# Altium integrated library WE-SHC (rev24a).IntLib: 139 symbols (part 3 of 3)
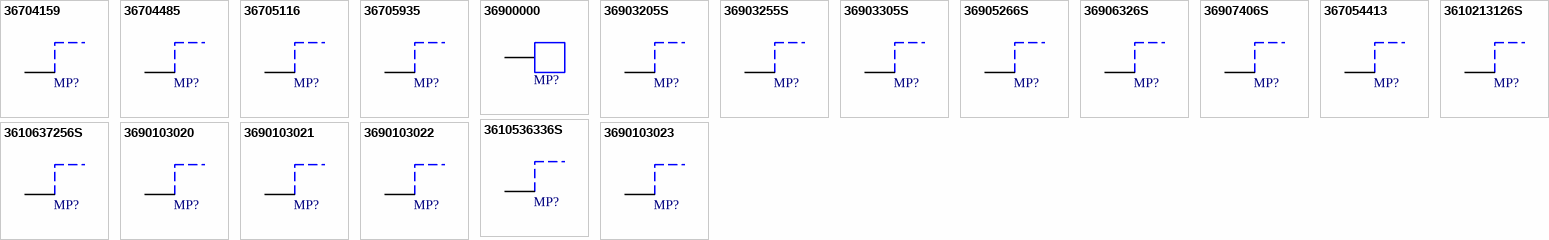
[diagram p5: symbols 36704159 to 3690103023]

## 3690103023
designator MP?  (value not drawn)
WE-SHC Shielding Cabinet, One Piece, Tin Plated, Tape and Reel, 3.1x3.1x0.89mm; Manufacturer: Wurth Elektronik; Base Material: Brass; ComponentLink1Description: Website Link; ComponentLink1URL: https://www.we-online.com/redexpert/article/3690103023?ad; ComponentLink2Description: Datasheet Link; ComponentLink2URL: https://www.we-online.com/redexpert/spec/3690103023?ad; Manufacturer Part Number: 3690103023; Category: EMC Shielding; Match Code: WE-SHC; Mount: Surface Mount; Operating Temperature Max: 125°C; Operating Temperature Min: -40°C; Packaging: Tape and Reel; Length: 3.1mm; Width: 3.1mm; Height: 0.89mm; Plating: Tin Plated; Type: One Piece
footprint 3690103023
pins: 1